# Altium schematic symbol library jlcpcb_2025_04_ferrites_extended_0201.schlib: 64 symbols (part 2 of 2)
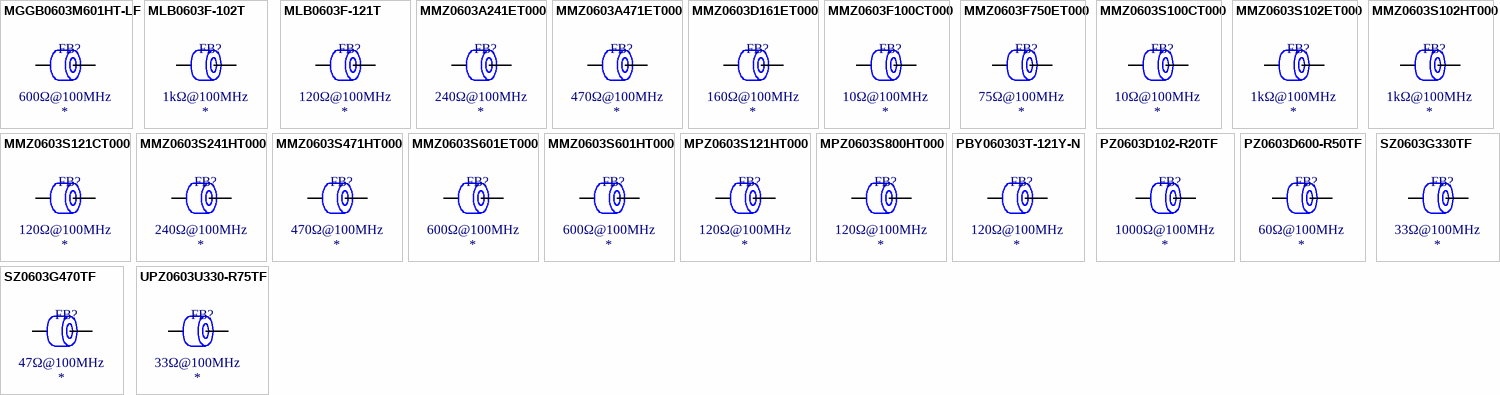
[diagram p2: symbols MGGB0603M601HT-LF to UPZ0603U330-R75TF]

## MPZ0603S121HT000
designator FB?  Impedance @ Frequency: 120Ω@100MHz
Ferrite, 120Ω@100MHz, ±25%, 130mΩ, 1A, SMD 0201; Manufacturer: TDK; Manufacturer Part Number: MPZ0603S121HT000; Package Size: 0201; JLCPCB Basic Part: No; JLCPCB Part Number: C695597; Supplier 1: LCSC; Category: Ferrite Beads; Supplier Part Number 1: C695597; Tolerance: ±25%; Rated Current: 1A; DC Resistance: 130mΩ; RoHS: Yes; ComponentLink1Description: Datasheet; ComponentLink1URL: https://wmsc.lcsc.com/wmsc/upload/file/pdf/v2/lcsc/2304140030_TDK-MPZ0603S121HT000_C695597.pdf; ComponentLink2Description: JLCPCB Part URL; ComponentLink2URL: https://jlcpcb.com/partdetail/C695597; ComponentLink3Description: LCSC Part URL; ComponentLink3URL: https://lcsc.com/product-detail/Ferrite-Beads_TDK-TDK-MPZ0603S121HT000_C695597.html
footprint FB-0201 (0201 (0603M) Ferrite)
pins: 1, 2

## MPZ0603S800HT000
designator FB?  Impedance @ Frequency: 120Ω@100MHz
Ferrite, 120Ω@100MHz, ±25%, 95mΩ, 1.2A, SMD 0201; Manufacturer: TDK; Manufacturer Part Number: MPZ0603S800HT000; Package Size: 0201; JLCPCB Basic Part: No; JLCPCB Part Number: C1533873; Supplier 1: LCSC; Category: Ferrite Beads; Supplier Part Number 1: C1533873; Tolerance: ±25%; Rated Current: 1.2A; DC Resistance: 95mΩ; RoHS: Yes; ComponentLink1Description: Datasheet; ComponentLink1URL: https://wmsc.lcsc.com/wmsc/upload/file/pdf/v2/lcsc/2304140030_TDK-MPZ0603S800HT000_C1533873.pdf; ComponentLink2Description: JLCPCB Part URL; ComponentLink2URL: https://jlcpcb.com/partdetail/C1533873; ComponentLink3Description: LCSC Part URL; ComponentLink3URL: https://lcsc.com/product-detail/Ferrite-Beads_TDK-TDK-MPZ0603S800HT000_C1533873.html
footprint FB-0201 (0201 (0603M) Ferrite)
pins: 1, 2

## PBY060303T-121Y-N
designator FB?  Impedance @ Frequency: 120Ω@100MHz
Ferrite, 120Ω@100MHz, ±25%, 0.23Ω, 450mA, SMD 0201; Manufacturer: Chilisin Elec; Manufacturer Part Number: PBY060303T-121Y-N; Package Size: 0201; JLCPCB Basic Part: No; JLCPCB Part Number: C525624; Supplier 1: LCSC; Category: Ferrite Beads; Supplier Part Number 1: C525624; Tolerance: ±25%; Rated Current: 450mA; DC Resistance: 0.23Ω; RoHS: Yes; ComponentLink1Description: Datasheet; ComponentLink1URL: https://wmsc.lcsc.com/wmsc/upload/file/pdf/v2/lcsc/2004301811_Chilisin-Elec-PBY060303T-121Y-N_C525624.pdf; ComponentLink2Description: JLCPCB Part URL; ComponentLink2URL: https://jlcpcb.com/partdetail/C525624; ComponentLink3Description: LCSC Part URL; ComponentLink3URL: https://lcsc.com/product-detail/Ferrite-Beads_Chilisin-Elec-Chilisin-Elec-PBY060303T-121Y-N_C525624.html
footprint FB-0201 (0201 (0603M) Ferrite)
pins: 1, 2

## PZ0603D102-R20TF
designator FB?  Impedance @ Frequency: 1000Ω@100MHz
Ferrite, 1000Ω@100MHz, ±25%, 1.4Ω, 200mA, SMD 0201; Manufacturer: Sunlord; Manufacturer Part Number: PZ0603D102-R20TF; Package Size: 0201; JLCPCB Basic Part: No; JLCPCB Part Number: C185894; Supplier 1: LCSC; Category: Ferrite Beads; Supplier Part Number 1: C185894; Tolerance: ±25%; Rated Current: 200mA; DC Resistance: 1.4Ω; RoHS: Yes; ComponentLink1Description: Datasheet; ComponentLink1URL: https://wmsc.lcsc.com/wmsc/upload/file/pdf/v2/lcsc/2310301524_Sunlord-PZ0603D102-R20TF_C185894.pdf; ComponentLink2Description: JLCPCB Part URL; ComponentLink2URL: https://jlcpcb.com/partdetail/C185894; ComponentLink3Description: LCSC Part URL; ComponentLink3URL: https://lcsc.com/product-detail/Ferrite-Beads_Sunlord-Sunlord-PZ0603D102-R20TF_C185894.html
footprint FB-0201 (0201 (0603M) Ferrite)
pins: 1, 2

## PZ0603D600-R50TF
designator FB?  Impedance @ Frequency: 60Ω@100MHz
Ferrite, 60Ω@100MHz, ±25%, 0.18Ω, 500mA, SMD 0201; Manufacturer: Sunlord; Manufacturer Part Number: PZ0603D600-R50TF; Package Size: 0201; JLCPCB Basic Part: No; JLCPCB Part Number: C185889; Supplier 1: LCSC; Category: Ferrite Beads; Supplier Part Number 1: C185889; Tolerance: ±25%; Rated Current: 500mA; DC Resistance: 0.18Ω; RoHS: Yes; ComponentLink1Description: Datasheet; ComponentLink1URL: https://wmsc.lcsc.com/wmsc/upload/file/pdf/v2/lcsc/2310301640_Sunlord-PZ0603D600-R50TF_C185889.pdf; ComponentLink2Description: JLCPCB Part URL; ComponentLink2URL: https://jlcpcb.com/partdetail/C185889; ComponentLink3Description: LCSC Part URL; ComponentLink3URL: https://lcsc.com/product-detail/Ferrite-Beads_Sunlord-Sunlord-PZ0603D600-R50TF_C185889.html
footprint FB-0201 (0201 (0603M) Ferrite)
pins: 1, 2

## SZ0603G330TF
designator FB?  Impedance @ Frequency: 33Ω@100MHz
Ferrite, 33Ω@100MHz, ±25%, 550mΩ, 150mA, SMD 0201; Manufacturer: Sunlord; Manufacturer Part Number: SZ0603G330TF; Package Size: 0201; JLCPCB Basic Part: No; JLCPCB Part Number: C95896; Supplier 1: LCSC; Category: Ferrite Beads; Supplier Part Number 1: C95896; Tolerance: ±25%; Rated Current: 150mA; DC Resistance: 550mΩ; RoHS: Yes; ComponentLink1Description: Datasheet; ComponentLink1URL: https://wmsc.lcsc.com/wmsc/upload/file/pdf/v2/lcsc/2310301641_Sunlord-SZ0603G330TF_C95896.pdf; ComponentLink2Description: JLCPCB Part URL; ComponentLink2URL: https://jlcpcb.com/partdetail/C95896; ComponentLink3Description: LCSC Part URL; ComponentLink3URL: https://lcsc.com/product-detail/Ferrite-Beads_Sunlord-Sunlord-SZ0603G330TF_C95896.html
footprint FB-0201 (0201 (0603M) Ferrite)
pins: 1, 2

## SZ0603G470TF
designator FB?  Impedance @ Frequency: 47Ω@100MHz
Ferrite, 47Ω@100MHz, ±25%, 700mΩ, 150mA, SMD 0201; Manufacturer: Sunlord; Manufacturer Part Number: SZ0603G470TF; Package Size: 0201; JLCPCB Basic Part: No; JLCPCB Part Number: C95897; Supplier 1: LCSC; Category: Ferrite Beads; Supplier Part Number 1: C95897; Tolerance: ±25%; Rated Current: 150mA; DC Resistance: 700mΩ; RoHS: Yes; ComponentLink1Description: Datasheet; ComponentLink1URL: https://wmsc.lcsc.com/wmsc/upload/file/pdf/v2/lcsc/2310301641_Sunlord-SZ0603G470TF_C95897.pdf; ComponentLink2Description: JLCPCB Part URL; ComponentLink2URL: https://jlcpcb.com/partdetail/C95897; ComponentLink3Description: LCSC Part URL; ComponentLink3URL: https://lcsc.com/product-detail/Ferrite-Beads_Sunlord-Sunlord-SZ0603G470TF_C95897.html
footprint FB-0201 (0201 (0603M) Ferrite)
pins: 1, 2

## UPZ0603U330-R75TF
designator FB?  Impedance @ Frequency: 33Ω@100MHz
Ferrite, 33Ω@100MHz, 750mA, SMD 0201; Manufacturer: Sunlord; Manufacturer Part Number: UPZ0603U330-R75TF; Package Size: 0201; JLCPCB Basic Part: No; JLCPCB Part Number: C2992323; Supplier 1: LCSC; Category: Ferrite Beads; Supplier Part Number 1: C2992323; Rated Current: 750mA; RoHS: Yes; ComponentLink1Description: Datasheet; ComponentLink1URL: https://wmsc.lcsc.com/wmsc/upload/file/pdf/v2/lcsc/2310301544_Sunlord-UPZ0603U330-R75TF_C2992323.pdf; ComponentLink2Description: JLCPCB Part URL; ComponentLink2URL: https://jlcpcb.com/partdetail/C2992323; ComponentLink3Description: LCSC Part URL; ComponentLink3URL: https://lcsc.com/product-detail/Ferrite-Beads_Sunlord-Sunlord-UPZ0603U330-R75TF_C2992323.html
pins: 1, 2